# Altium schematic symbol library LCR.SchLib: 24 symbols
Pins are listed as number, name and electrical type; pins without a type are passive.

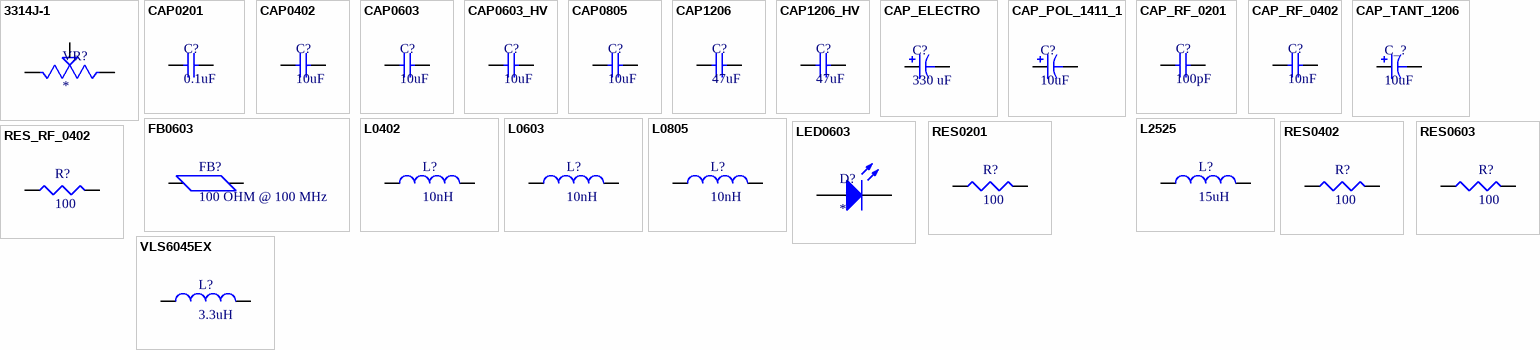
[diagram p0: symbols 3314J-1 to VLS6045EX]

## 3314J-1
designator VR?
10 kOhms 0.25W, 1/4W J Lead Surface Mount Trimmer Potentiometer Cermet 1 Turn Top Adjustment; MP: 3314J-1-103E; MF: Bourns; Availability: Good; Package: DFN-8 Bourns; SnapEDA_Link: https://www.snapeda.com/parts/3314J-1-103E/Bourns/view-part/485632/?ref=snap; Purchase-URL: https://pricing.snapeda.com/search/part/3314J-1-103E/?ref=eda; Value: *; Check_prices: https://www.snapeda.com/parts/3314J-1-103E/Bourns/view-part/485632/?ref=eda; Price: None
footprint TRIM_3314J-1 (3314 - 4mm Square Trimpot Trimming Potentiometer)
pins: 1 CCW, 2 WIPER, 3 CW

## CAP0201
designator C?, comment 0.1uF
Capacitor 0201 Imperial
footprint Johanson-0201 (Chip Capacitor, 2-Leads, Body 0.82x0.37mm, IPC Medium Density)
pins: 1, 2

## CAP0402
designator C?, comment 10uF
Ceramic Capacitor 0402
footprint SMD-0402 (0402 Imperial)
pins: 1, 2

## CAP0603
designator C?, comment 10uF
Ceramic Capacitor 0603
footprint SMD-0603 (SMD Body 1.6x0.8mm, IPC High Density)
pins: 1, 2

## CAP0603_HV
designator C?, comment 10uF
Ceramic Capacitor 0603, 25V
footprint SMD-0603 (SMD Body 1.6x0.8mm, IPC High Density)
pins: 1, 2

## CAP0805
designator C?, comment 10uF
Ceramic Capacitor 0805 Imperial (2012 Metric)
footprint SMD-0805 (Chip Capacitor, Body 2.0x1.3mm, IPC High Density, 0805 Imperial, 2012 Metric)
pins: 1, 2

## CAP1206
designator C?, comment 47uF
Ceramic Capacitor 1206 Imperial
footprint SMD-1206 (Chip Capacitor, Body 3.2x1.6mm, IPC High Density)
pins: 1, 2

## CAP1206_HV
designator C?, comment 47uF
Ceramic Capacitor 1206 Imperial, 25V
footprint SMD-1206 (Chip Capacitor, Body 3.2x1.6mm, IPC High Density)
pins: 1, 2

## CAP_ELECTRO
designator C?, comment 330 uF
CAP ALUM 330UF 20% 25V RADIAL EEU-FM1E331
footprint CAP-AXIAL-12.5-5.0 (Polarized Capacitor (Radial); 2 Leads)
pins: 1, 2

## CAP_POL_1411_1
designator C?, comment 10uF
Polarized Cap size 1411 Imperial
footprint CAP_POL_3528 (Chip Capacitor, 2-Leads, Body 3.50x2.80mm, IPC Medium Density, Imperial 1411)
pins: 1, 2

## CAP_RF_0201
designator C?, comment 100pF
Broadband Capacitor 0201 Imperial
footprint Johanson-0201 (Chip Capacitor, 2-Leads, Body 0.82x0.37mm, IPC Medium Density)
pins: 1, 2

## CAP_RF_0402
designator C?, comment 10nF
Broadband Ceramic Capacitor X7R 0402 (1005 Metric)
footprint SMD-0402 (0402 Imperial)
pins: 1, 2

## CAP_TANT_1206
designator C_?, comment 10uF
Polarized Cap, Size 1206 Imperial (3216 Metric), Tantalum
footprint CAP_TANT_1206_POL (Imperial 1206, Metric 3216)
pins: 1, 2

## FB0603
designator FB?, comment 100 OHM @ 100 MHz
Ferrite Bead 0603
footprint SMD-0603 (SMD Body 1.6x0.8mm, IPC High Density)
pins: 1, 2

## L0402
designator L?, comment 10nH
Inductor 0402
footprint SMD-0402 (0402 Imperial)
pins: 1, 2

## L0603
designator L?, comment 10nH
Inductor 0603
footprint SMD-0603 (SMD Body 1.6x0.8mm, IPC High Density)
pins: 1, 2

## L0805
designator L?, comment 10nH
Inductor 0805
footprint SMD-0805 (Chip Capacitor, Body 2.0x1.3mm, IPC High Density, 0805 Imperial, 2012 Metric)
pins: 1, 2

## L2525
designator L?, comment 15uH
Inductor 2525
footprint SMD-2525 (XAL6060-153MEB Inductor)
pins: 1, 2

## LED0603
designator D?
LED 0603
footprint LED-SMD-0603 (SMD Body 1.6x0.8mm, IPC High Density)
pins: 1 A, 2 K

## RES0201
designator R?, comment 100
Resistor-0201
footprint Johanson-0201 (Chip Capacitor, 2-Leads, Body 0.82x0.37mm, IPC Medium Density)
pins: 1, 2

## RES0402
designator R?, comment 100
Resistor-0402
footprint SMD-0402 (0402 Imperial)
pins: 1, 2

## RES0603
designator R?, comment 100
Resistor-0603
footprint SMD-0603 (SMD Body 1.6x0.8mm, IPC High Density)
pins: 1, 2

## RES_RF_0402
designator R?, comment 100
High Frequency Resistor 0402
footprint SMD-0402 (0402 Imperial)
pins: 1, 2

## VLS6045EX
designator L?, comment 3.3uH
VLS6045EX type Inductor 2525
footprint SMD-2525 (XAL6060-153MEB Inductor)
pins: 1, 2